# EAGLE library part FEATHER_PINOUT_FULL (library stepOSP)
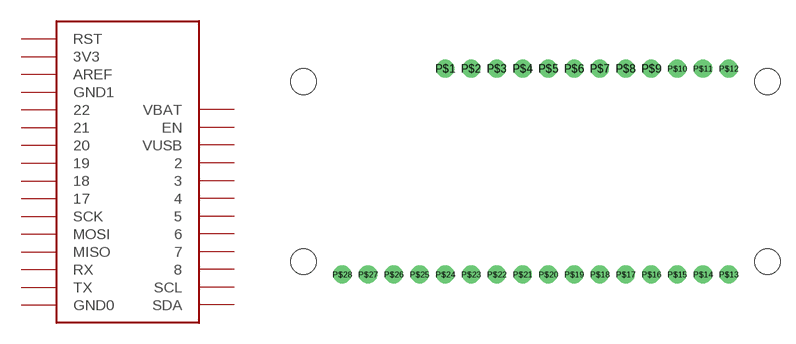
[diagram p58: symbol with the pads of FEATHER_PINOUT_FULL; footprint FEATHER_PINOUT_FULL]

Designator prefix -

## FEATHER_PINOUT_FULL  [FEATHER_PINOUT_FULL]
P$1  VBAT
P$2  EN
P$3  VUSB
P$4  2
P$5  3
P$6  4
P$7  5
P$8  6
P$9  7
P$10  8
P$11  SCL
P$12  SDA
P$13  GND0
P$14  TX
P$15  RX
P$16  MISO
P$17  MOSI
P$18  SCK
P$19  17
P$20  18
P$21  19
P$22  20
P$23  21
P$24  22
P$25  GND1
P$26  AREF
P$27  3V3
P$28  RST

## Footprint FEATHER_PINOUT_FULL (pad centres in mm)
drill 1.016 pad 1.778: P$1 16.51,21.59; P$2 19.05,21.59; P$3 21.59,21.59; P$4 24.13,21.59; P$5 26.67,21.59; P$6 29.21,21.59; P$7 31.75,21.59; P$8 34.29,21.59; P$9 36.83,21.59; P$10 39.37,21.59; P$11 41.91,21.59; P$12 44.45,21.59; P$13 44.45,1.27; P$14 41.91,1.27; P$15 39.37,1.27; P$16 36.83,1.27; P$17 34.29,1.27; P$18 31.75,1.27; P$19 29.21,1.27; P$20 26.67,1.27; P$21 24.13,1.27; P$22 21.59,1.27; P$23 19.05,1.27; P$24 16.51,1.27; P$25 13.97,1.27; P$26 11.43,1.27; P$27 8.89,1.27; P$28 6.35,1.27
hole 2.54 at 2.54,2.54
hole 2.54 at 2.54,20.32
hole 2.54 at 48.26,20.32
hole 2.54 at 48.26,2.54